# Altium footprint library RelèBluetooth.PcbLib: 19 footprints (part 2 of 2)
Each footprint in its own frame and in the unit in brackets; x right, y up, seen from the top. Pads: shape width x height; smd on the part's side, far side on the other; paste and mask are expansions set on the pad; w line width, h text height; cw(c..) or ccw(c..) is an arc to the next point about the centre after c.
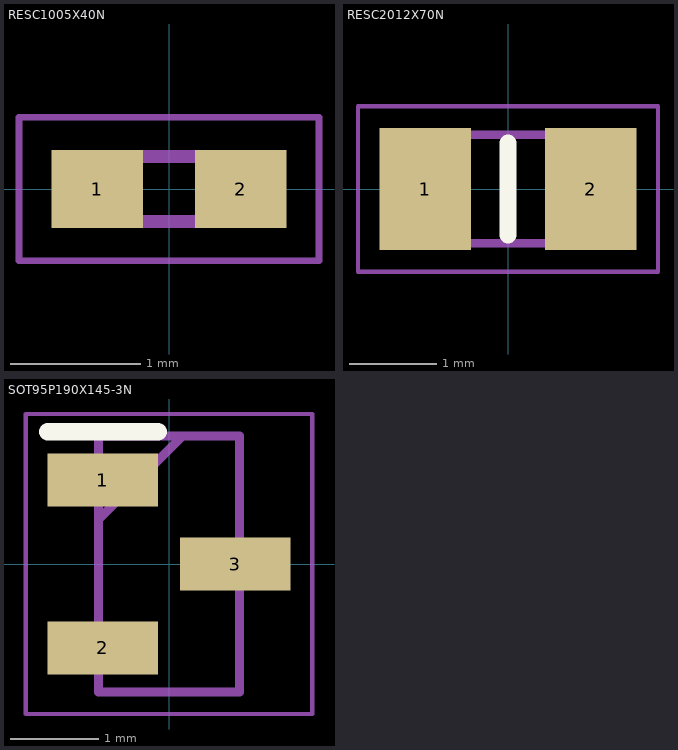
[diagram p1: the footprints below, top view; thin cyan lines are the x and y axes]

## RESC1005X40N [mm]
pads (2):
  rect 0.7x0.6 smd: 1(-0.55,0) 2(0.55,0)
Mechanical 13:
  lines w0.1: -0.5,-0.25 -0.5,0.25 0.5,0.25 0.5,-0.25 -0.5,-0.25
Mechanical 15:
  lines w0.05: -1.15,-0.55 -1.15,0.55 1.15,0.55 1.15,-0.55 -1.15,-0.55
3D body "CRCW040251K0FKEDHP.stp": height 0.4, standoff 0, extent -0.5,-0.25 0.5,0.25

## RESC2012X70N [mm]
pads (2):
  rect 1.05x1.4 smd: 1(-0.95,0) 2(0.95,0)
Top Overlay:
  lines w0.2: 0,-0.525 0,0.525
Mechanical 13:
  lines w0.1: -1,-0.625 -1,0.625 1,0.625 1,-0.625 -1,-0.625
Mechanical 15:
  lines w0.05: -1.725,-0.95 -1.725,0.95 1.725,0.95 1.725,-0.95 -1.725,-0.95
3D body "ERJ-6GEYJ513V.stp": height 0.6, standoff 0, extent -1,-0.625 1,0.625

## SOT95P190X145-3N [mm]
pads (3):
  rect 1.25x0.6 smd: 1(-0.75,0.95) 2(-0.75,-0.95) 3(0.75,0)
Top Overlay:
  lines w0.2: -1.375,1.5 -0.125,1.5
Mechanical 13:
  lines w0.1: -0.8,0.5 0.15,1.45 ; -0.8,-1.45 -0.8,1.45 0.8,1.45 0.8,-1.45 -0.8,-1.45
Mechanical 15:
  lines w0.05: -1.625,-1.7 -1.625,1.7 1.625,1.7 1.625,-1.7 -1.625,-1.7
3D body "HT7750A_SOT23-3.stp": height 1.1, standoff 0, extent -1.3,-1.35 1.3,1.35